# EAGLE library part PCM3001E (library ADCs)
SoundPlus(TM) Stereo Audio Codec 18-bits, Serial Interface
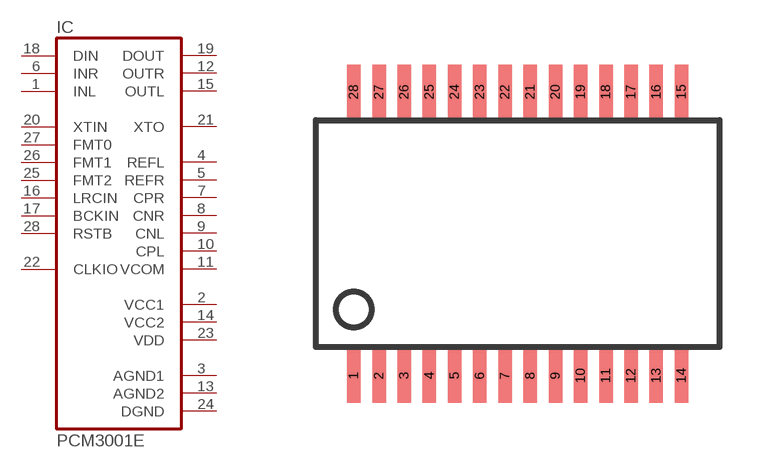
[diagram p16: symbol with the pads of SSOP28BU; footprint SSOP28BU]

Designator prefix IC

## PCM3001E (MF: TEXAS INSTRUMENTS; MPN: PCM3001E; OC_FARNELL: unknown; OC_NEWARK: 34K8600)  [SSOP28BU]
1  INL  in
2  VCC1  pwr
3  AGND1  pwr
4  REFL  pas
5  REFR  pas
6  INR  in
7  CPR  pas
8  CNR  pas
9  CNL  pas
10  CPL  pas
11  VCOM  pas
12  OUTR  out
13  AGND2  pwr
14  VCC2  pwr
15  OUTL  out
16  LRCIN  in
17  BCKIN  in
18  DIN  in
19  DOUT  out
20  XTIN  in
21  XTO  out
22  CLKIO
23  VDD  pwr
24  DGND  pwr
25  FMT2  in
26  FMT1  in
27  FMT0  in
28  RSTB  in

## Footprint SSOP28BU (pad centres in mm)
Small Shrink Outline Package
smd 0.348 x 1.397: 1 -4.225,-3.656; 2 -3.575,-3.656; 3 -2.925,-3.656; 4 -2.275,-3.656; 5 -1.625,-3.656; 6 -0.975,-3.656; 7 -0.325,-3.656; 8 0.325,-3.656; 9 0.975,-3.656; 10 1.625,-3.656; 11 2.275,-3.656; 12 2.925,-3.656; 13 3.575,-3.656; 14 4.225,-3.656; 15 4.225,3.656; 16 3.575,3.656; 17 2.925,3.656; 18 2.275,3.656; 19 1.625,3.656; 20 0.975,3.656; 21 0.325,3.656; 22 -0.325,3.656; 23 -0.975,3.656; 24 -1.625,3.656; 25 -2.275,3.656; 26 -2.925,3.656; 27 -3.575,3.656; 28 -4.225,3.656